# EAGLE library part HIROSE-DXLM (library con-hirose-dxlm)
Hirose DXLM connector
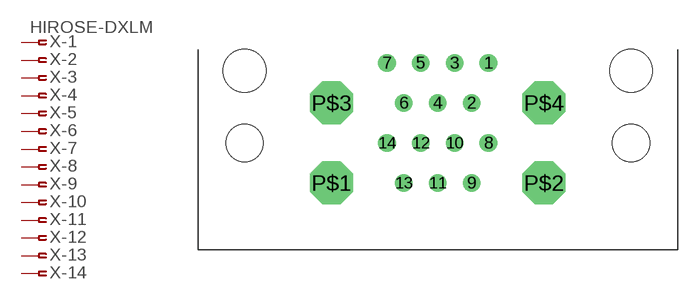
[diagram p94: symbol with the pads of HIROSE-DXLM; footprint HIROSE-DXLM]

Designator prefix X; gates -1=PIN-FV -2=PIN-F -3=PIN-F -4=PIN-F -5=PIN-F -6=PIN-F -7=PIN-F -8=PIN-F -9=PIN-F -10=PIN-F -11=PIN-F -12=PIN-F -13=PIN-F -14=PIN-F

## HIROSE-DXLM  [HIROSE-DXLM]
1  -1:1  pas
2  -2:1  pas
3  -3:1  pas
4  -4:1  pas
5  -5:1  pas
6  -6:1  pas
7  -7:1  pas
8  -8:1  pas
9  -9:1  pas
10  -10:1  pas
11  -11:1  pas
12  -12:1  pas
13  -13:1  pas
14  -14:1  pas

## Footprint HIROSE-DXLM (pad centres in mm)
Hirose DXLM connector
drill 0.813: 1 3.81,9; 2 2.54,6; 3 1.27,9; 4 0,6; 5 -1.27,9; 6 -2.54,6; 7 -3.81,9; 8 3.81,3; 9 2.54,0; 10 1.27,3; 11 0,0; 12 -1.27,3; 13 -2.54,0; 14 -3.81,3
drill 2.2 octagon: P$1 -7.97,0; P$2 7.97,0; P$3 -7.97,6; P$4 7.97,6
hole 2.8 at 14.5,3
hole 2.8 at -14.5,3
hole 3.2 at -14.5,8.4
hole 3.2 at 14.5,8.4